# EAGLE library part FPC-0.5X45 (library pimoroni-connectors)
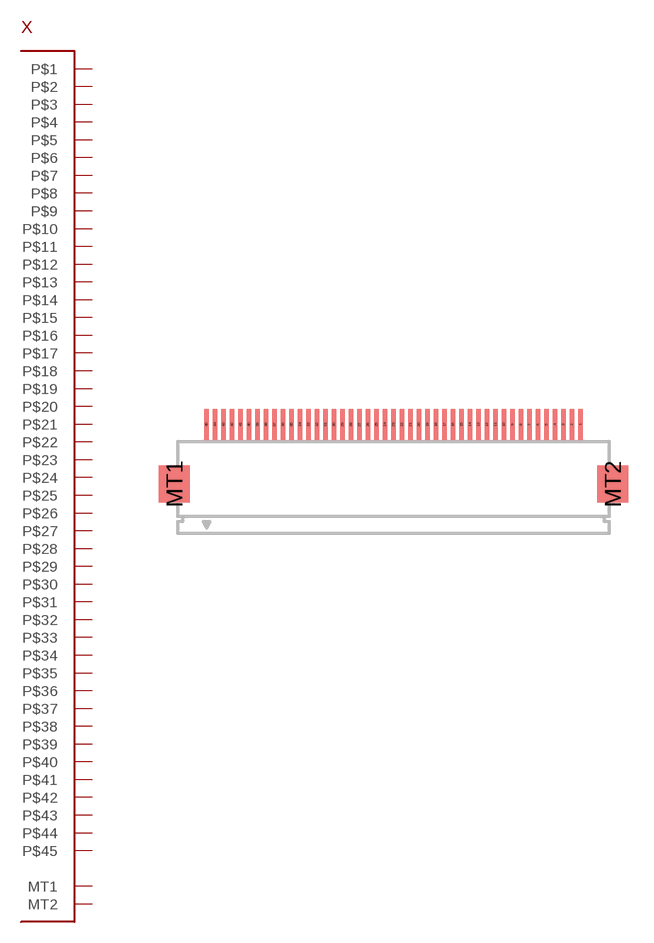
[diagram p15: symbol with the pads of FPC_0.5X45; footprint FPC_0.5X45]

Designator prefix X

## FPC-0.5X45  [FPC_0.5X45]
1  P$1
2  P$2
3  P$3
4  P$4
5  P$5
6  P$6
7  P$7
8  P$8
9  P$9
10  P$10
11  P$11
12  P$12
13  P$13
14  P$14
15  P$15
16  P$16
17  P$17
18  P$18
19  P$19
20  P$20
21  P$21
22  P$22
23  P$23
24  P$24
25  P$25
26  P$26
27  P$27
28  P$28
29  P$29
30  P$30
31  P$31
32  P$32
33  P$33
34  P$34
35  P$35
36  P$36
37  P$37
38  P$38
39  P$39
40  P$40
41  P$41
42  P$42
43  P$43
44  P$44
45  P$45
MT1  MT1
MT2  MT2

## Footprint FPC_0.5X45 (pad centres in mm)
smd 0.25 x 1.8: 1 11,3.5; 2 10.5,3.5; 3 10,3.5; 4 9.5,3.5; 5 9,3.5; 6 8.5,3.5; 7 8,3.5; 8 7.5,3.5; 9 7,3.5; 10 6.5,3.5; 11 6,3.5; 12 5.5,3.5; 13 5,3.5; 14 4.5,3.5; 15 4,3.5; 16 3.5,3.5; 17 3,3.5; 18 2.5,3.5; 19 2,3.5; 20 1.5,3.5; 21 1,3.5; 22 0.5,3.5; 23 0,3.5; 24 -0.5,3.5; 25 -1,3.5; 26 -1.5,3.5; 27 -2,3.5; 28 -2.5,3.5; 29 -3,3.5; 30 -3.5,3.5; 31 -4,3.5; 32 -4.5,3.5; 33 -5,3.5; 34 -5.5,3.5; 35 -6,3.5; 36 -6.5,3.5; 37 -7,3.5; 38 -7.5,3.5; 39 -8,3.5; 40 -8.5,3.5; 41 -9,3.5; 42 -9.5,3.5; 43 -10,3.5; 44 -10.5,3.5; 45 -11,3.5
smd 1.8 x 2.2: MT1 -12.9,0; MT2 12.9,0